# Altium footprint library RM-8.PcbLib: 2 footprints
Each footprint in its own frame and in the unit in brackets; x right, y up, seen from the top. Pads: shape width x height; smd on the part's side, far side on the other; paste and mask are expansions set on the pad; w line width, h text height; cw(c..) or ccw(c..) is an arc to the next point about the centre after c.
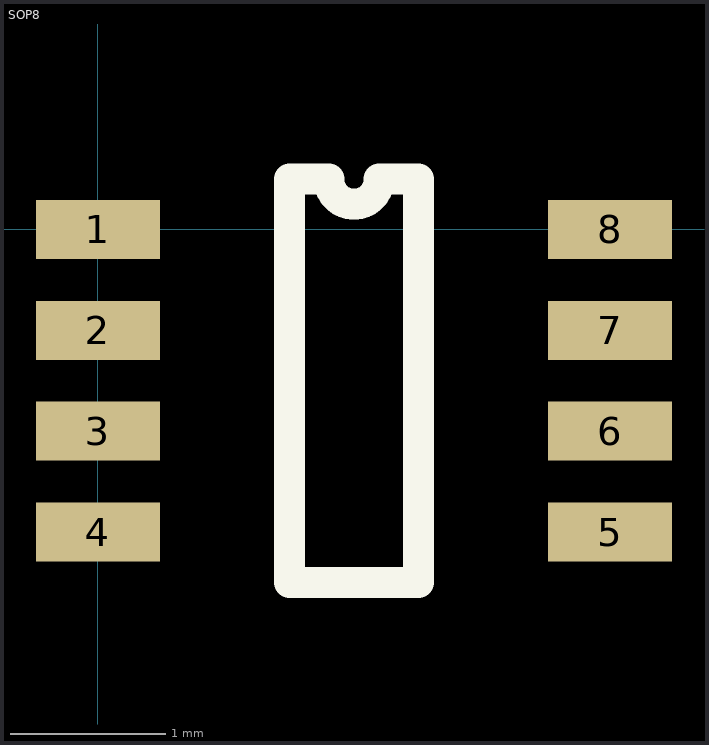
[diagram p0: the footprints below, top view; thin cyan lines are the x and y axes]

## PCBComponent_1 [mm]

## SOP8 [mm]
pads (8):
  rect 0.8x0.38 smd: 1(0,0) 2(0,-0.65) 3(0,-1.3) 4(0,-1.95) 5(3.3,-1.95) 6(3.3,-1.3) 7(3.3,-0.65) 8(3.3,0)
Top Overlay:
  lines w0.2: 1.235,-2.275 1.235,0.325 1.488,0.325 ccw(c1.65,0.325) 1.812,0.325 2.065,0.325 2.065,-2.275 1.235,-2.275